# EAGLE library part MAX40658-8-TDFN-3X3MM (library NEON-BLADE-2024)
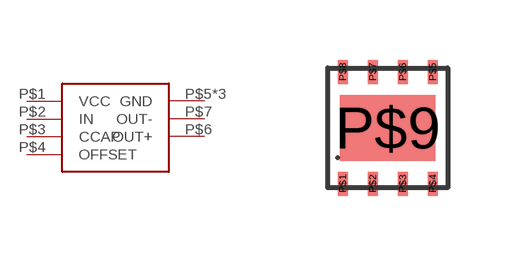
[diagram p43: symbol with the pads of MAX40658-8-TDFN-3X3MM; footprint MAX40658-8-TDFN-3X3MM]

Designator prefix -

## MAX40658-8-TDFN-3X3MM  [MAX40658-8-TDFN-3X3MM]
P$1  VCC
P$2  IN
P$3  CCAP
P$4  OFFSET
P$5  GND
P$6  OUT+
P$7  OUT-
P$8  GND
P$9  GND

## Footprint MAX40658-8-TDFN-3X3MM (pad centres in mm)
smd 0.25 x 0.6: P$1 -1.125,-1.4; P$2 -0.375,-1.4; P$3 0.375,-1.4; P$4 1.125,-1.4; P$5 1.125,1.4; P$6 0.375,1.4; P$7 -0.375,1.4; P$8 -1.125,1.4
smd 2.38 x 1.65: P$9 0,0